# Altium schematic symbol library 74LVC1G53DP,125.Schlib: 1 symbol
Pins are listed as number, name and electrical type; pins without a type are passive.

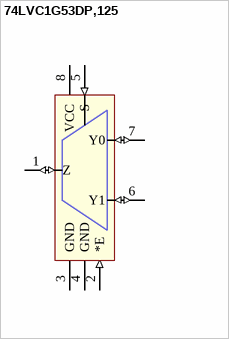
[diagram p0: symbol 74LVC1G53DP,125]

## 74LVC1G53DP,125
designator U?, comment 1:2 Mux/Demux
74LVC Series 5.5 V SMT 2-Channel Analog Multiplexer/Demultiplexer - TSSOP-8
footprint TSOP65P400X110-8N (TSOP, 8-Leads, Body 3.00x3.00mm, Pitch 0.65mm, IPC Medium Density)
pins: 1 Z (io), 2 *E (in), 3 GND, 4 GND, 5 S (in), 6 Y1 (io), 7 Y0 (io), 8 VCC (power)